# EAGLE library part 74AHCT157PW,118 (library pimoroni-ics)
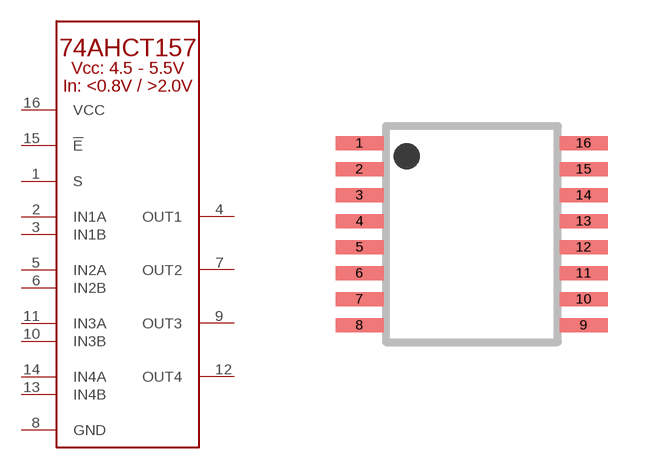
[diagram p118: symbol with the pads of TSSOP-16-TI; footprint TSSOP-16-TI]

Designator prefix U

## 74AHCT157PW,118  [TSSOP-16-TI]
1  S
2  IN1A
3  IN1B
4  OUT1
5  IN2A
6  IN2B
7  OUT2
8  GND
9  OUT3
10  IN3B
11  IN3A
12  OUT4
13  IN4B
14  IN4A
15  !E
16  VCC

## Footprint TSSOP-16-TI (pad centres in mm)
PW (R-PDSO-G8) Source: http://focus.ti.com/lit/ds/symlink/ads1271.pdf
smd 1.2 x 0.35: 1 -2.808,2.275; 2 -2.808,1.625; 3 -2.808,0.975; 4 -2.808,0.325; 5 -2.808,-0.325; 6 -2.808,-0.975; 7 -2.808,-1.625; 8 -2.808,-2.275; 9 2.795,-2.275; 10 2.795,-1.625; 11 2.795,-0.975; 12 2.795,-0.325; 13 2.795,0.325; 14 2.795,0.975; 15 2.795,1.625; 16 2.795,2.275